# EAGLE library part FH12-14S-05.SH(55) (library Sala-Eng-Hirose)
Hirose FH12-14S-0.5SH(55) 0.5mm Bottom mount FFC
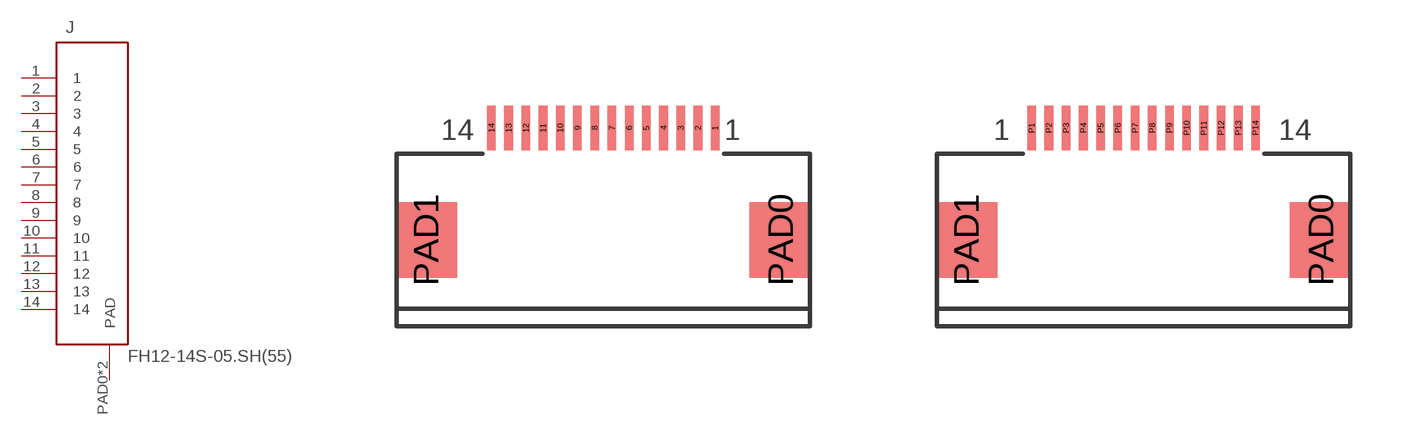
[diagram p7: symbol with the pads of FH12-14S-05.SH(55)-REMOTE; footprints FH12-14S-05.SH(55)-REMOTE, FH12-14S-05.SH(55)-BASE]

Designator prefix J

## FH12-14S-05.SH(55)REMOTE (MAN-PART-NUM: FH12-14S-0.5SH(55); MANUFACTURER: Hirose)  [FH12-14S-05.SH(55)-REMOTE]
1  1
2  2
3  3
4  4
5  5
6  6
7  7
8  8
9  9
10  10
11  11
12  12
13  13
14  14
PAD0  PAD
PAD1  PAD

## FH12-14S-05.SH(55)BASE (MAN-PART-NUM: FH12-14S-0.5SH(55); MANUFACTURER: Hirose)  [FH12-14S-05.SH(55)-BASE]
P1  1
P2  2
P3  3
P4  4
P5  5
P6  6
P7  7
P8  8
P9  9
P10  10
P11  11
P12  12
P13  13
P14  14
PAD0  PAD
PAD1  PAD

## Footprint FH12-14S-05.SH(55)-REMOTE (pad centres in mm)
Hirose FH12-14S-0.5SH(55) 0.5mm Bottom mount FFC 14 Pin REMOTE Configuration
smd 0.25 x 1.3: 1 3.25,0; 2 2.75,0; 3 2.25,0; 4 1.75,0; 5 1.25,0; 6 0.75,0; 7 0.25,0; 8 -0.25,0; 9 -0.75,0; 10 -1.25,0; 11 -1.75,0; 12 -2.25,0; 13 -2.75,0; 14 -3.25,0
smd 1.8 x 2.2: PAD0 5.15,-3.25; PAD1 -5.15,-3.25

## Footprint FH12-14S-05.SH(55)-BASE (pad centres in mm)
Hirose FH12-14S-0.5SH(55) 0.5mm Bottom mount FFC 14 Pin REMOTE Configuration
smd 0.25 x 1.3: P1 -3.25,0; P2 -2.75,0; P3 -2.25,0; P4 -1.75,0; P5 -1.25,0; P6 -0.75,0; P7 -0.25,0; P8 0.25,0; P9 0.75,0; P10 1.25,0; P11 1.75,0; P12 2.25,0; P13 2.75,0; P14 3.25,0
smd 1.8 x 2.2: PAD0 5.15,-3.25; PAD1 -5.15,-3.25